# Altium schematic symbol library LTM4616EV#PBF.SchLib: 1 symbol
Pins are listed as number, name and electrical type; pins without a type are passive.

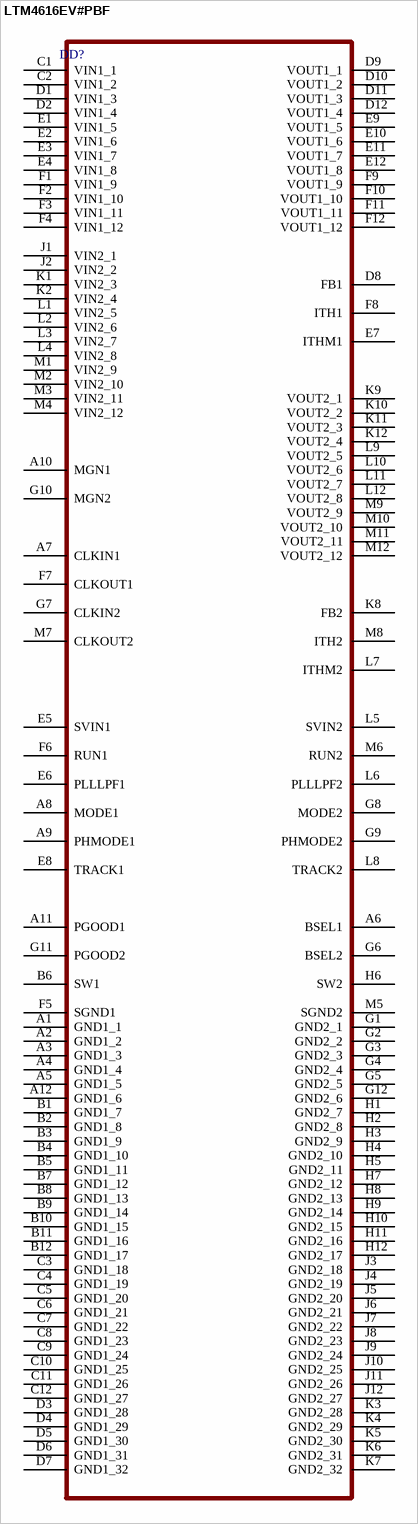
[diagram p0: symbol LTM4616EV#PBF]

## LTM4616EV#PBF
designator DD?
pins: A1 GND1_1, A2 GND1_2, A3 GND1_3, A4 GND1_4, A5 GND1_5, A6 BSEL1, A7 CLKIN1, A8 MODE1, A9 PHMODE1, A10 MGN1, A11 PGOOD1, A12 GND1_6, B1 GND1_7, B2 GND1_8, B3 GND1_9, B4 GND1_10, B5 GND1_11, B6 SW1, B7 GND1_12, B8 GND1_13, B9 GND1_14, B10 GND1_15, B11 GND1_16, B12 GND1_17, C1 VIN1_1, C2 VIN1_2, C3 GND1_18, C4 GND1_19, C5 GND1_20, C6 GND1_21, C7 GND1_22, C8 GND1_23, C9 GND1_24, C10 GND1_25, C11 GND1_26, C12 GND1_27, D1 VIN1_3, D2 VIN1_4, D3 GND1_28, D4 GND1_29, D5 GND1_30, D6 GND1_31, D7 GND1_32, D8 FB1, D9 VOUT1_1, D10 VOUT1_2, D11 VOUT1_3, D12 VOUT1_4, E1 VIN1_5, E2 VIN1_6, E3 VIN1_7, E4 VIN1_8, E5 SVIN1, E6 PLLLPF1, E7 ITHM1, E8 TRACK1, E9 VOUT1_5, E10 VOUT1_6, E11 VOUT1_7, E12 VOUT1_8, F1 VIN1_9, F2 VIN1_10, F3 VIN1_11, F4 VIN1_12, F5 SGND1, F6 RUN1, F7 CLKOUT1, F8 ITH1, F9 VOUT1_9, F10 VOUT1_10, F11 VOUT1_11, F12 VOUT1_12, G1 GND2_1, G2 GND2_2, G3 GND2_3, G4 GND2_4, G5 GND2_5, G6 BSEL2, G7 CLKIN2, G8 MODE2, G9 PHMODE2, G10 MGN2, G11 PGOOD2, G12 GND2_6, H1 GND2_7, H2 GND2_8, H3 GND2_9, H4 GND2_10, H5 GND2_11, H6 SW2, H7 GND2_12, H8 GND2_13, H9 GND2_14, H10 GND2_15, H11 GND2_16, H12 GND2_17, J1 VIN2_1, J2 VIN2_2, J3 GND2_18, J4 GND2_19, J5 GND2_20, J6 GND2_21, J7 GND2_22, J8 GND2_23, J9 GND2_24, J10 GND2_25, J11 GND2_26, J12 GND2_27, K1 VIN2_3, K2 VIN2_4, K3 GND2_28, K4 GND2_29, K5 GND2_30, K6 GND2_31, K7 GND2_32, K8 FB2, K9 VOUT2_1, K10 VOUT2_2, K11 VOUT2_3, K12 VOUT2_4, L1 VIN2_5, L2 VIN2_6, L3 VIN2_7, L4 VIN2_8, L5 SVIN2, L6 PLLLPF2, L7 ITHM2, L8 TRACK2, L9 VOUT2_5, L10 VOUT2_6, L11 VOUT2_7, L12 VOUT2_8, M1 VIN2_9, M2 VIN2_10, M3 VIN2_11, M4 VIN2_12, M5 SGND2, M6 RUN2, M7 CLKOUT2, M8 ITH2, M9 VOUT2_9, M10 VOUT2_10, M11 VOUT2_11, M12 VOUT2_12